# EAGLE library part 10PIN_5X2_.050IN (library Custom)
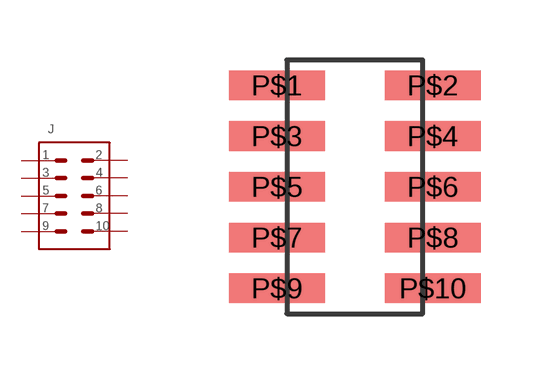
[diagram p6: symbol with the pads of 10-PIN_5X2_.050IN_SMT; footprint 10-PIN_5X2_.050IN_SMT]

Designator prefix J

## 10PIN_5X2_.050IN  [10-PIN_5X2_.050IN_SMT]
P$1  S1  pas
P$2  S2  pas
P$3  S3  pas
P$4  S4  pas
P$5  S5  pas
P$6  S6  pas
P$7  S7  pas
P$8  S8  pas
P$9  S9  pas
P$10  S10  pas

## Footprint 10-PIN_5X2_.050IN_SMT (pad centres in mm)
smd 2.4 x 0.74: P$1 -1.95,2.54; P$2 1.95,2.54; P$3 -1.95,1.27; P$4 1.95,1.27; P$5 -1.95,0; P$6 1.95,0; P$7 -1.95,-1.27; P$8 1.95,-1.27; P$9 -1.95,-2.54; P$10 1.95,-2.54